# EAGLE library part OPTOCOUPLER_TYPE2 (library QuantumOptics)
Optocoupler, Jedec 6N137 (pin compatible to 6N136), high CTR, high speed, inverting. http://www.toshiba.com/taec/components/Datasheet/6N137DS.pdf
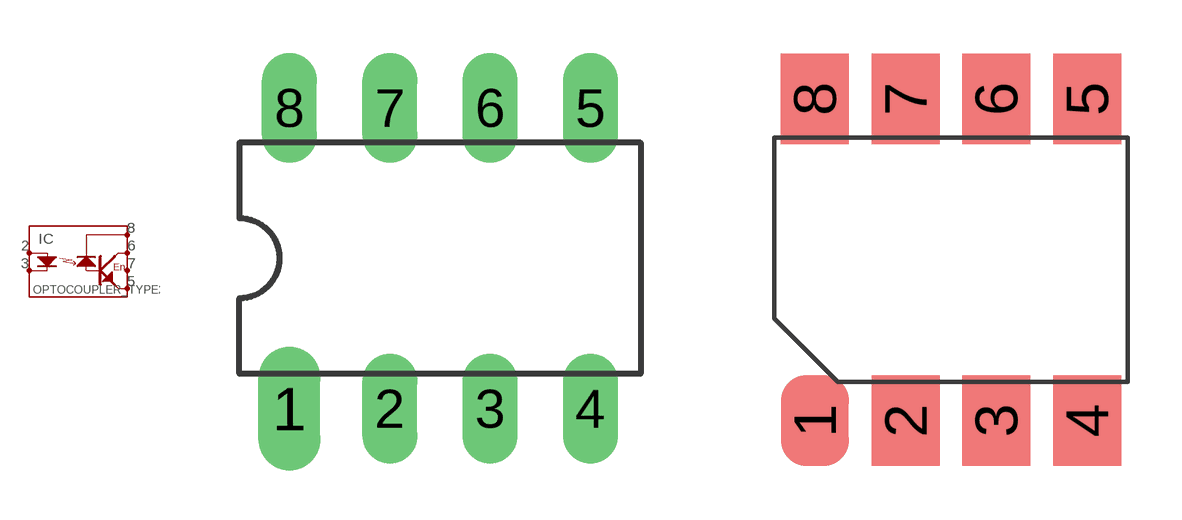
[diagram p61: symbol with the pads of DIL08; footprints DIL08, SMD:6N13X(8PIN)]

Designator prefix IC

## OPTOCOUPLER_TYPE2  [DIL08]
2  ANODE  in
3  CATHODE  in
5  COM
6  OUT  out
7  EN  in
8  VDD

## OPTOCOUPLER_TYPE2-SMD8-GULL  [SMD:6N13X(8PIN)]
Pads as for DIL08

## Footprint DIL08 (pad centres in mm)
Dual In Line Package
drill 0.889 pad 1.575 long: 1 -3.81,-3.81
drill 0.889 long: 2 -1.27,-3.81; 3 1.27,-3.81; 4 3.81,-3.81; 5 3.81,3.81; 6 1.27,3.81; 7 -1.27,3.81; 8 -3.81,3.81

## Footprint SMD:6N13X(8PIN) (pad centres in mm)
SMD version of DIP8, for example, 6N13x optocoupler. http://media.digikey.com/PDF/Data%20Sheets/Lite-On%20PDFs/6N135-36%20Series.pdf
smd 1.905 x 2.54: 1 -3.81,-4.508; 2 -1.27,-4.508; 3 1.27,-4.508; 4 3.81,-4.508; 5 3.81,4.508; 6 1.27,4.508; 7 -1.27,4.508; 8 -3.81,4.508